# EAGLE library part LM4950 (library NewSDR)
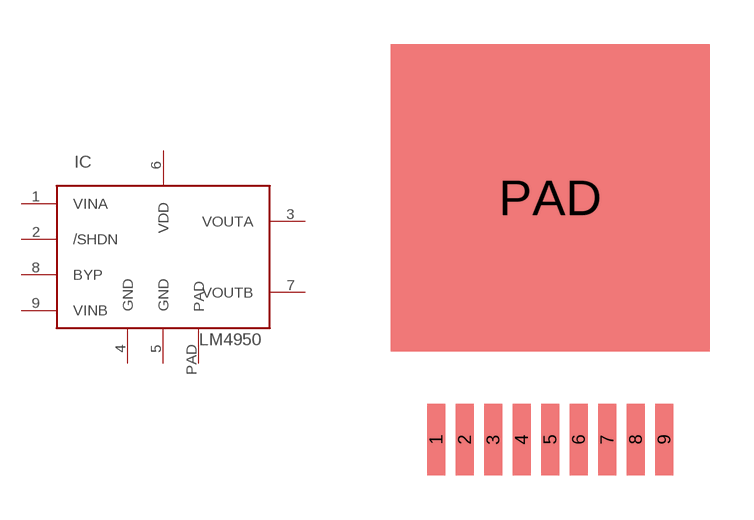
[diagram p55: symbol with the pads of TO263-9; footprint TO263-9]

Designator prefix IC

## LM4950  [TO263-9]
1  VINA  in
2  /SHDN  in
3  VOUTA  out
4  GND  pwr
5  GND  pwr
6  VDD  pwr
7  VOUTB  out
8  BYP  pas
9  VINB  in
PAD  PAD  pwr

## Footprint TO263-9 (pad centres in mm)
smd 0.61 x 2.413: 1 -3.861,0; 2 -2.896,0; 3 -1.93,0; 4 -0.965,0; 5 0,0; 6 0.965,0; 7 1.93,0; 8 2.896,0; 9 3.861,0
smd 10.795 x 10.414: PAD 0,8.191